# EAGLE library part SSW-129-02-S-D (library con-samtec)
THROUGH-HOLE .025" SQ POST SOCKET Source: Samtec SSW.pdf
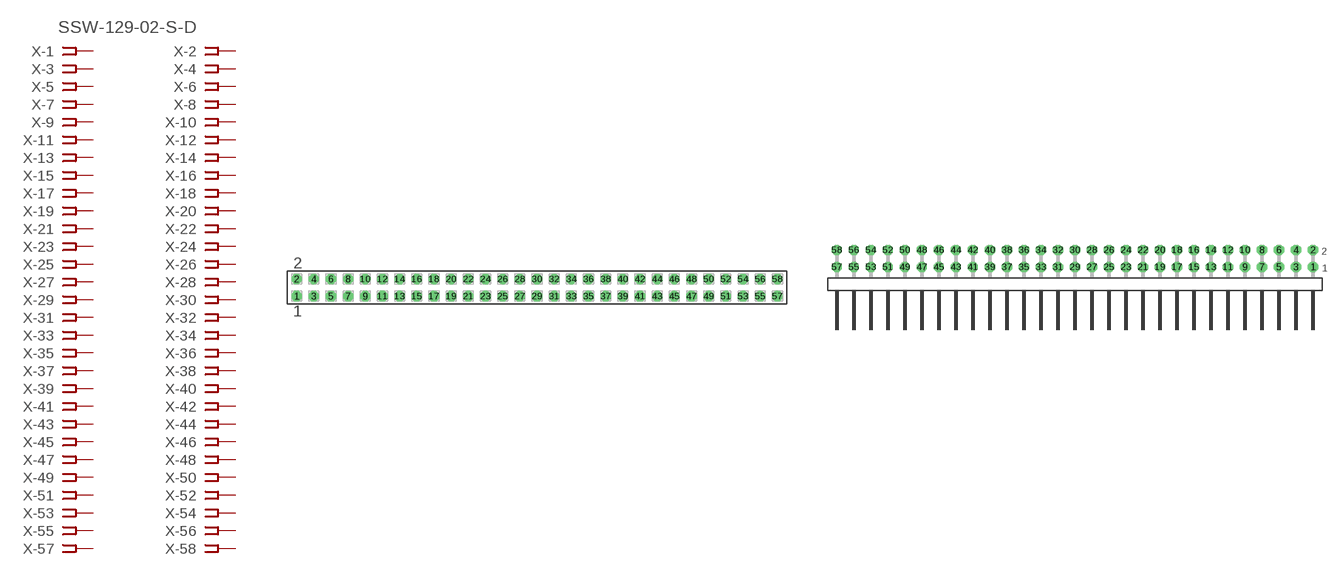
[diagram p170: symbol with the pads of SSW-129-02-S-D; footprints SSW-129-02-S-D, TSW-129-02-S-D-RA]

Designator prefix X; gates -1=FPINV -2=FPIN -3=FPIN -4=FPIN -5=FPIN -6=FPIN -7=FPIN -8=FPIN -9=FPIN -10=FPIN -11=FPIN -12=FPIN -13=FPIN -14=FPIN -15=FPIN -16=FPIN -17=FPIN -18=FPIN -19=FPIN -20=FPIN -21=FPIN -22=FPIN -23=FPIN -24=FPIN -25=FPIN -26=FPIN -27=FPIN -28=FPIN -29=FPIN -30=FPIN -31=FPIN -32=FPIN -33=FPIN -34=FPIN -35=FPIN -36=FPIN -37=FPIN -38=FPIN -39=FPIN -40=FPIN -41=FPIN -42=FPIN -43=FPIN -44=FPIN -45=FPIN -46=FPIN -47=FPIN -48=FPIN -49=FPIN -50=FPIN -51=FPIN -52=FPIN -53=FPIN -54=FPIN -55=FPIN -56=FPIN -57=FPIN -58=FPIN

## SSW-129-02-S-D  [SSW-129-02-S-D]
1  -1:1  pas
2  -2:1  pas
3  -3:1  pas
4  -4:1  pas
5  -5:1  pas
6  -6:1  pas
7  -7:1  pas
8  -8:1  pas
9  -9:1  pas
10  -10:1  pas
11  -11:1  pas
12  -12:1  pas
13  -13:1  pas
14  -14:1  pas
15  -15:1  pas
16  -16:1  pas
17  -17:1  pas
18  -18:1  pas
19  -19:1  pas
20  -20:1  pas
21  -21:1  pas
22  -22:1  pas
23  -23:1  pas
24  -24:1  pas
25  -25:1  pas
26  -26:1  pas
27  -27:1  pas
28  -28:1  pas
29  -29:1  pas
30  -30:1  pas
31  -31:1  pas
32  -32:1  pas
33  -33:1  pas
34  -34:1  pas
35  -35:1  pas
36  -36:1  pas
37  -37:1  pas
38  -38:1  pas
39  -39:1  pas
40  -40:1  pas
41  -41:1  pas
42  -42:1  pas
43  -43:1  pas
44  -44:1  pas
45  -45:1  pas
46  -46:1  pas
47  -47:1  pas
48  -48:1  pas
49  -49:1  pas
50  -50:1  pas
51  -51:1  pas
52  -52:1  pas
53  -53:1  pas
54  -54:1  pas
55  -55:1  pas
56  -56:1  pas
57  -57:1  pas
58  -58:1  pas

## SSW-129-02-S-D-RA  [TSW-129-02-S-D-RA]
Pads as for SSW-129-02-S-D

## Footprint SSW-129-02-S-D (pad centres in mm)
THROUGH-HOLE .025" SQ POST SOCKET Source: Samtec SSW.pdf
drill 1 pad 1.5 octagon: 1 -35.56,-1.27; 2 -35.56,1.27; 3 -33.02,-1.27; 4 -33.02,1.27; 5 -30.48,-1.27; 6 -30.48,1.27; 7 -27.94,-1.27; 8 -27.94,1.27; 9 -25.4,-1.27; 10 -25.4,1.27; 11 -22.86,-1.27; 12 -22.86,1.27; 13 -20.32,-1.27; 14 -20.32,1.27; 15 -17.78,-1.27; 16 -17.78,1.27; 17 -15.24,-1.27; 18 -15.24,1.27; 19 -12.7,-1.27; 20 -12.7,1.27; 21 -10.16,-1.27; 22 -10.16,1.27; 23 -7.62,-1.27; 24 -7.62,1.27; 25 -5.08,-1.27; 26 -5.08,1.27; 27 -2.54,-1.27; 28 -2.54,1.27; 29 0,-1.27; 30 0,1.27; 31 2.54,-1.27; 32 2.54,1.27; 33 5.08,-1.27; 34 5.08,1.27; 35 7.62,-1.27; 36 7.62,1.27; 37 10.16,-1.27; 38 10.16,1.27; 39 12.7,-1.27; 40 12.7,1.27; 41 15.24,-1.27; 42 15.24,1.27; 43 17.78,-1.27; 44 17.78,1.27; 45 20.32,-1.27; 46 20.32,1.27; 47 22.86,-1.27; 48 22.86,1.27; 49 25.4,-1.27; 50 25.4,1.27; 51 27.94,-1.27; 52 27.94,1.27; 53 30.48,-1.27; 54 30.48,1.27; 55 33.02,-1.27; 56 33.02,1.27; 57 35.56,-1.27; 58 35.56,1.27

## Footprint TSW-129-02-S-D-RA (pad centres in mm)
THROUGH-HOLE .025" SQ POST HEADER Source: Samtec TSW.pdf
drill 1 pad 1.5 octagon: 1 35.56,1.524; 2 35.56,4.064; 3 33.02,1.524; 4 33.02,4.064; 5 30.48,1.524; 6 30.48,4.064; 7 27.94,1.524; 8 27.94,4.064; 9 25.4,1.524; 10 25.4,4.064; 11 22.86,1.524; 12 22.86,4.064; 13 20.32,1.524; 14 20.32,4.064; 15 17.78,1.524; 16 17.78,4.064; 17 15.24,1.524; 18 15.24,4.064; 19 12.7,1.524; 20 12.7,4.064; 21 10.16,1.524; 22 10.16,4.064; 23 7.62,1.524; 24 7.62,4.064; 25 5.08,1.524; 26 5.08,4.064; 27 2.54,1.524; 28 2.54,4.064; 29 0,1.524; 30 0,4.064; 31 -2.54,1.524; 32 -2.54,4.064; 33 -5.08,1.524; 34 -5.08,4.064; 35 -7.62,1.524; 36 -7.62,4.064; 37 -10.16,1.524; 38 -10.16,4.064; 39 -12.7,1.524; 40 -12.7,4.064; 41 -15.24,1.524; 42 -15.24,4.064; 43 -17.78,1.524; 44 -17.78,4.064; 45 -20.32,1.524; 46 -20.32,4.064; 47 -22.86,1.524; 48 -22.86,4.064; 49 -25.4,1.524; 50 -25.4,4.064; 51 -27.94,1.524; 52 -27.94,4.064; 53 -30.48,1.524; 54 -30.48,4.064; 55 -33.02,1.524; 56 -33.02,4.064; 57 -35.56,1.524; 58 -35.56,4.064